# Altium footprint library whong.PcbLib: 68 footprints (part 3 of 5)
Each footprint in its own frame and in the unit in brackets; x right, y up, seen from the top. Pads: shape width x height; smd on the part's side, far side on the other; paste and mask are expansions set on the pad; w line width, h text height; cw(c..) or ccw(c..) is an arc to the next point about the centre after c.
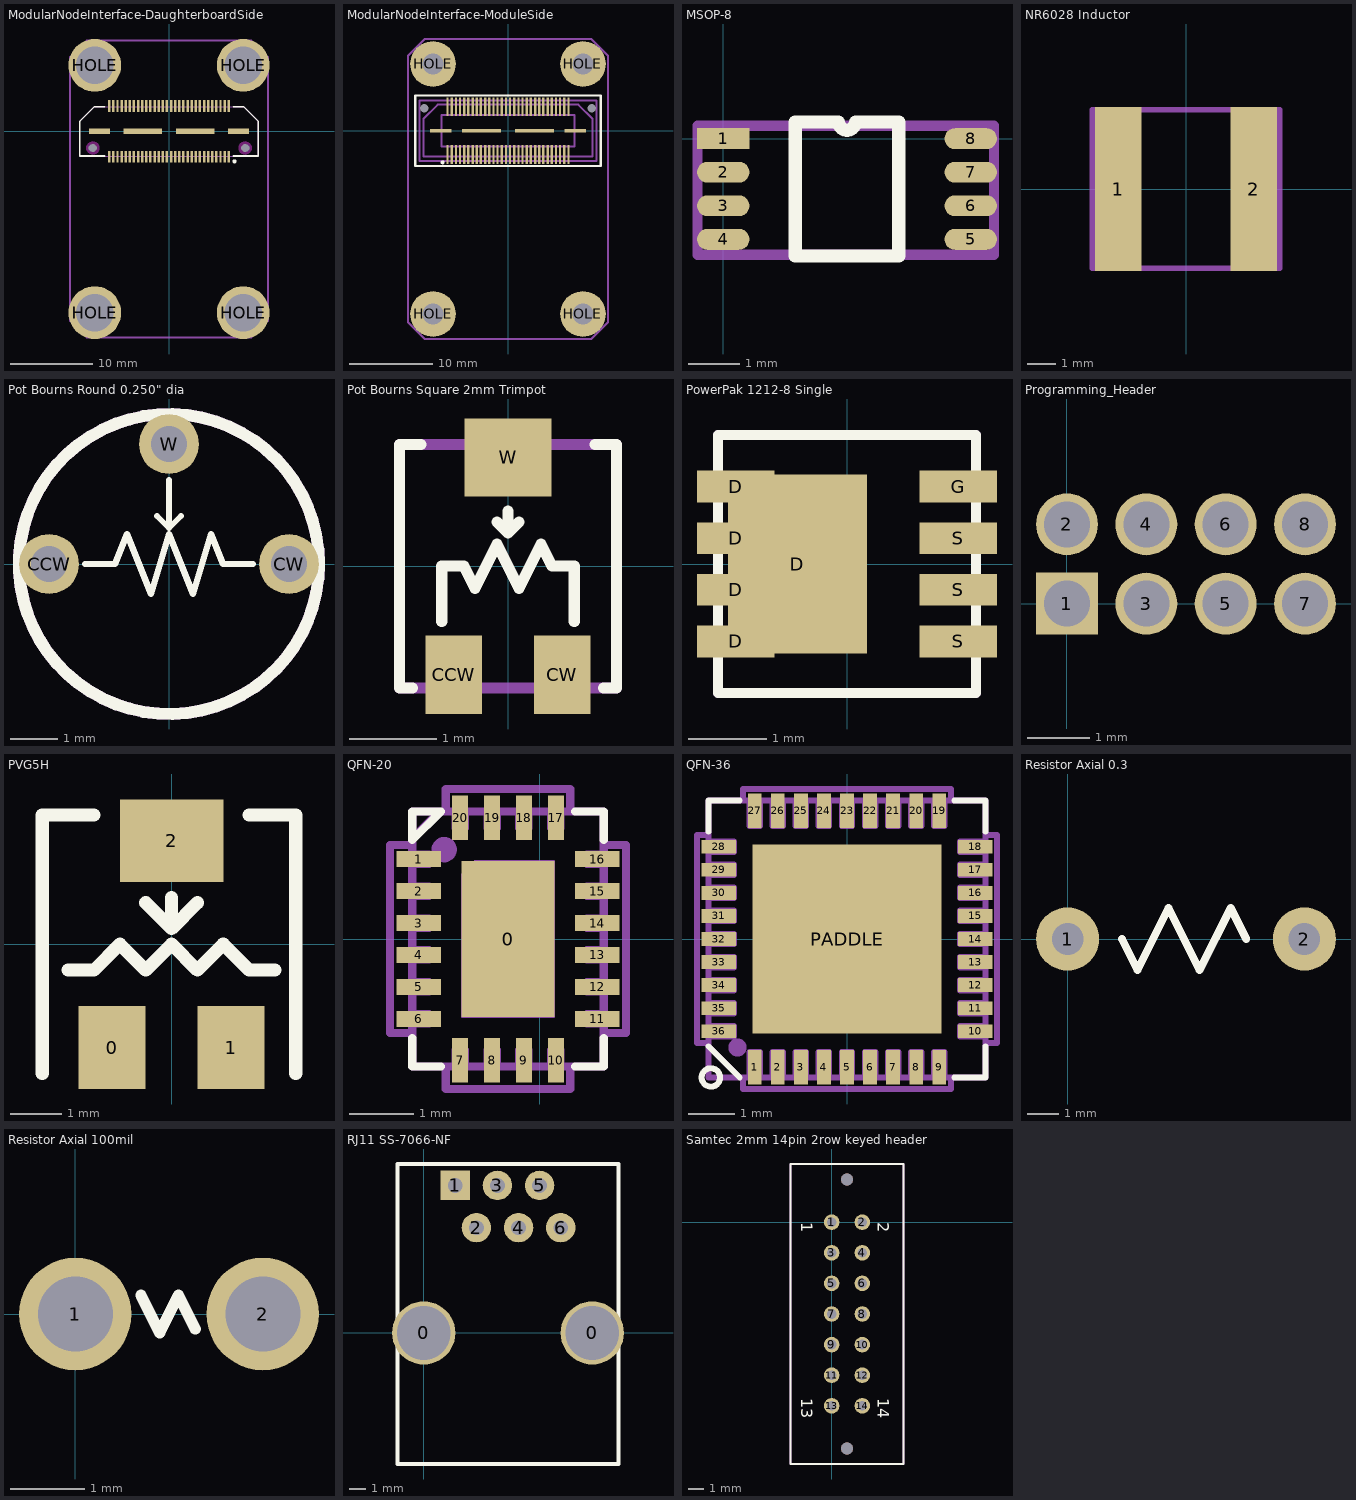
[diagram p2: the footprints below, top view; thin cyan lines are the x and y axes]

## ModularNodeInterface-DaughterboardSide [mm] "QTH Board to board connector"
pads (70):
  rect 0.3x1.45 smd mask+0: 1(7.25,-3.09) 2(7.25,3.09) 3(6.75,-3.09) 4(6.75,3.09) 5(6.25,-3.09) 6(6.25,3.09) 7(5.75,-3.09) 8(5.75,3.09) 9(5.25,-3.09) 10(5.25,3.09) 11(4.75,-3.09) 12(4.75,3.09) 13(4.25,-3.09) 14(4.25,3.09) 15(3.75,-3.09) 16(3.75,3.09) 17(3.25,-3.09) 18(3.25,3.09) 19(2.75,-3.09) 20(2.75,3.09) 21(2.25,-3.09) 22(2.25,3.09) 23(1.75,-3.09) 24(1.75,3.09) 25(1.25,-3.09) 26(1.25,3.09) 27(0.75,-3.09) 28(0.75,3.09) 29(0.25,-3.09) 30(0.25,3.09) 31(-0.25,-3.09) 32(-0.25,3.09) 33(-0.75,-3.09) 34(-0.75,3.09) 35(-1.25,-3.09) 36(-1.25,3.09) 37(-1.75,-3.09) 38(-1.75,3.09) 39(-2.25,-3.09) 40(-2.25,3.09) 41(-2.75,-3.09) 42(-2.75,3.09) 43(-3.25,-3.09) 44(-3.25,3.09) 45(-3.75,-3.09) 46(-3.75,3.09) 47(-4.25,-3.09) 48(-4.25,3.09) 49(-4.75,-3.09) 50(-4.75,3.09) 51(-5.25,-3.09) 52(-5.25,3.09) 53(-5.75,-3.09) 54(-5.75,3.09) 55(-6.25,-3.09) 56(-6.25,3.09) 57(-6.75,-3.09) 58(-6.75,3.09) 59(-7.25,-3.09) 60(-7.25,3.09)
  rect 2.54x0.635 smd mask+0: 61(8.455,0) 62(-8.455,0)
  rect 4.7x0.635 smd mask+0: 63(3.175,0) 64(-3.175,0)
  round 0.5 hole 1 unplated mask+0: 65(9.24,-2.03) 66(-9.24,-2.03)
  round 6.4 hole 4.572: HOLE(-9,-22) HOLE(-9,8) HOLE(9,-22) HOLE(9,8)
Top Overlay:
  circle w0.25: c7.95,-3.65 r0.125
  lines w0.2: -7.8,-3 -10.85,-3 -10.85,1.2 -9.05,3 -7.8,3 ; 7.8,-3 10.85,-3 10.85,1.2 9.05,3 7.8,3
Keep-Out Layer:
  pour cut-out: -10.047,-2.03 -10.019,-2.239 -9.939,-2.433 -9.811,-2.601 -9.643,-2.729 -9.449,-2.809 -9.24,-2.837 -9.031,-2.809 -8.837,-2.729 -8.669,-2.601 -8.541,-2.433 -8.461,-2.239 -8.433,-2.03 -8.461,-1.821 -8.541,-1.627 -8.669,-1.459 -8.837,-1.331 -9.031,-1.251 -9.24,-1.223 -9.449,-1.251 -9.643,-1.331 -9.811,-1.459 -9.939,-1.627 -10.019,-1.821
  pour cut-out: 8.433,-2.03 8.461,-2.239 8.541,-2.433 8.669,-2.601 8.837,-2.729 9.031,-2.809 9.24,-2.837 9.449,-2.809 9.643,-2.729 9.811,-2.601 9.939,-2.433 10.019,-2.239 10.047,-2.03 10.019,-1.821 9.939,-1.627 9.811,-1.459 9.643,-1.331 9.449,-1.251 9.24,-1.223 9.031,-1.251 8.837,-1.331 8.669,-1.459 8.541,-1.627 8.461,-1.821
Mechanical 6:
  lines w0.1: -10.85,-3 10.85,-3 10.85,1.2 9.05,3 -9.05,3 -10.85,1.2
  lines w0.254: -12,-23 -12,9 -10,11 10,11 12,9 12,-23 10,-25 -10,-25 -12,-23
  text ".Designator" at -3,-15 h0.76
3D body: height 8.42, standoff 1.58, extent -12,-25 12,11
3D body: height 9.8, standoff 6.8, extent -11.728,-24.744 -6.25,-19.255
3D body: height 9.8, standoff 6.8, extent 6.272,-24.744 11.75,-19.255
3D body: height 9.8, standoff 6.8, extent 6.272,5.256 11.75,10.745
3D body: height 9.8, standoff 6.8, extent -11.728,5.256 -6.25,10.745
3D body: height 5, standoff 0, extent -12.274,-25.293 -5.7,-18.706
3D body: height 5, standoff 0, extent 5.726,-25.293 12.3,-18.706
3D body: height 5, standoff 0, extent 5.726,4.707 12.3,11.294
3D body: height 5, standoff 0, extent -12.274,4.707 -5.7,11.294
3D body: height 4.06, standoff -0.94, extent -10.001,-3.556 10.001,3.556

## ModularNodeInterface-ModuleSide [mm] "QSH Board to board connector"
pads (70):
  rect 0.28x2.27 smd mask+0.05: 1(-7.25,-2.87) 2(-7.25,2.87) 3(-6.75,-2.87) 4(-6.75,2.87) 5(-6.25,-2.87) 6(-6.25,2.87) 7(-5.75,-2.87) 8(-5.75,2.87) 9(-5.25,-2.87) 10(-5.25,2.87) 11(-4.75,-2.87) 12(-4.75,2.87) 13(-4.25,-2.87) 14(-4.25,2.87) 15(-3.75,-2.87) 16(-3.75,2.87) 17(-3.25,-2.87) 18(-3.25,2.87) 19(-2.75,-2.87) 20(-2.75,2.87) 21(-2.25,-2.87) 22(-2.25,2.87) 23(-1.75,-2.87) 24(-1.75,2.87) 25(-1.25,-2.87) 26(-1.25,2.87) 27(-0.75,-2.87) 28(-0.75,2.87) 29(-0.25,-2.87) 30(-0.25,2.87) 31(0.25,-2.87) 32(0.25,2.87) 33(0.75,-2.87) 34(0.75,2.87) 35(1.25,-2.87) 36(1.25,2.87) 37(1.75,-2.87) 38(1.75,2.87) 39(2.25,-2.87) 40(2.25,2.87) 41(2.75,-2.87) 42(2.75,2.87) 43(3.25,-2.87) 44(3.25,2.87) 45(3.75,-2.87) 46(3.75,2.87) 47(4.25,-2.87) 48(4.25,2.87) 49(4.75,-2.87) 50(4.75,2.87) 51(5.25,-2.87) 52(5.25,2.87) 53(5.75,-2.87) 54(5.75,2.87) 55(6.25,-2.87) 56(6.25,2.87) 57(6.75,-2.87) 58(6.75,2.87) 59(7.25,-2.87) 60(7.25,2.87)
  rect 2.54x0.43 smd mask+0.05: 61(-8.065,0) 64(8.065,0)
  rect 4.7x0.43 smd mask+0.05: 62(-3.175,0) 63(3.175,0)
  round 0 hole 1.02: 65(-10.065,2.67) 66(10.065,2.67)
  round 5.5 hole 2.5: HOLE(-9,-22) HOLE(-9,8) HOLE(9,-22) HOLE(9,8)
Top Overlay:
  circle w0.254: c-7.856,-3.8 r0.106
  lines w0.254: -11.133,-4.23 11.133,-4.23 11.133,4.23 -11.133,4.23 -11.133,-4.23
Mechanical 6:
  lines w0.254: -12,-23 -10,-25 10,-25 12,-23 12,9 10,11 -10,11 -12,9 -12,-23 ; -10.636,-3.62 -10.636,3.62 10.636,3.62 10.636,-3.62 -10.636,-3.62 ; -10.136,-3.12 -10.136,1.42 -8.436,3.12 8.436,3.12 10.136,1.42 10.136,-3.12 -10.136,-3.12 ; -8,-1.9 -8,1.9 8,1.9 8,-1.9 -8,-1.9
  text ".Designator" at -3,-15 h0.76
3D body: height 3.42, standoff -0.58, extent -10.647,-3.768 10.625,3.725

## MSOP-8 [mil]
pads (8):
  rect 40x16 smd: 1(0,0)
  oval 40x16 smd: 2(0,-25.6) 3(0,-51.2) 4(0,-76.8) 5(189,-76.8) 6(189,-51.2) 7(189,-25.6) 8(189,0)
Top Overlay:
  lines w10: 55,-89.6 55,12.8 88.1,12.8 ccw(c94.5,12.8) 100.9,12.8 134,12.8 134,-89.6 55,-89.6
Mechanical 6:
  lines w7.87: -19.68,-88.58 -19.68,9.84 206.69,9.84 206.69,-88.58 -19.68,-88.58
  text ".designator" at 9.84,-68.9 h40

## NR6028 Inductor [mm]
pads (2):
  rect 1.6x5.7 smd: 1(-2.35,0) 2(2.35,0)
Mechanical 6:
  lines w0.2: -3.25,-2.75 -3.25,2.75 3.25,2.75 3.25,-2.75 -3.25,-2.75
  text ".designator" at -2.5,-1 h1.02

## PCBComponent_1 [mm]

## Pot Bourns Round 0.250" dia [mil] "Bourns Sealed Round 0.250\" dia pot"
height 230
pads (3):
  round 50 hole 30: CCW(-100,0) CW(100,0) W(0,100)
Top Overlay:
  circle w10: c0,0 r125
  lines w5: -70,0 -50,0 -45,0 -35,25 -15,-25 ; -10,40 0,30 ; 0,70 0,30 ; 10,40 0,30 ; 70,0 45,0 35,25 20,-25 0,25 ; -15,-25 0,25 ; -15,-25 0,25
Mechanical 1:
  circle w10: c0,0 r125
Mechanical 6:
  circle w5: c0,0 r125
  text ".Designator" at -90,-10 h31.5
3D body: height 230, standoff 0, extent -124.01,-125 125,124.51
3D body: height 0, standoff -180, extent 90.08,-9.96 110,10
3D body: height 0, standoff -180, extent -9.92,90.04 10,110
3D body: height 0, standoff -180, extent -109.92,-9.96 -90,10

## Pot Bourns Square 2mm Trimpot [mm] "Bourns Sealed 2mm square trimpot"
height 1.7
pads (3):
  rect 0.65x0.9 smd: CCW(-0.625,-1.25) CW(0.625,-1.25)
  rect 1x0.9 smd: W(0,1.25)
Top Overlay:
  lines w0.127: -1.1,-1.4 -1.25,-1.4 -1.25,1.4 -1,1.4 ; -0.762,-0.635 -0.762,0 -0.508,0 -0.381,-0.254 -0.127,0.254 0.127,-0.254 0.381,0.254 0.508,0 0.762,0 0.762,-0.635 ; -0.127,0.508 0,0.381 ; 0,0.635 0,0.381 ; 0.127,0.508 0,0.381 ; 1,1.4 1.25,1.4 1.25,-1.4 1.1,-1.4
Mechanical 6:
  lines w0.127: -1.25,-1.4 1.25,-1.4 1.25,1.4 1,1.4 -1.25,1.4 -1.25,-1.4
  text ".Designator" at -1.168,-0.381 h0.8
3D body: height 1.8, standoff 1, extent -0.747,-0.749 0.747,0.749
3D body: height 1.7, standoff 0.2, extent -1.25,-1.4 1.25,1.4

## PowerPak 1212-8 Single [mil] "PowerPak 1212-8 Single"
height 41.34
pads (9):
  rect 39x16 smd: D(-56,-39) D(-56,-13) D(-56,13) D(-56,39) G(56,39) S(56,-39) S(56,-13) S(56,13)
  rect 70x90 smd: D(-25,0)
Top Overlay:
  lines w5: -64.96,-64.96 -64.96,64.96 64.96,64.96 64.96,-64.96 -64.96,-64.96
Mechanical 6:
  lines w5: -64.96,-64.96 64.96,-64.96 64.96,64.96 -64.96,64.96 -64.96,-64.96
  text ".designator" at -45.28,-12.8 h27.56
3D body: height 41.34, standoff 0, extent -64.96,-64.96 64.96,64.96

## Programming_Header [mil]
pads (8):
  rect 39x39 hole 29: 1(0,0)
  round 39 hole 29: 2(0,50) 3(50,0) 4(50,50) 5(100,0) 6(100,50) 7(150,0) 8(150,50)

## PVG5H [mm] "Murata side-turn trim pot"
height 3.7
pads (3):
  rect 1.3x1.6 smd: 0(-1.15,-2) 1(1.15,-2)
  rect 2x1.6 smd: 2(0,2)
Top Overlay:
  lines w0.254: -2.5,-2.5 -2.5,2.5 -1.5,2.5 ; -2,-0.5 -1.5,-0.5 -1,0 -0.5,-0.5 ; 0,0.9 0,0.3 ; 0.5,0.8 0,0.3 ; 1.5,2.5 2.4,2.5 2.4,-2.5 ; 2,-0.5 1.5,-0.5 1,0 0.5,-0.5 ; -0.5,-0.5 -0.5,-0.5 ; -0.5,-0.5 0,0 0.5,-0.5 ; -0.5,0.8 -0.5,0.8 ; -0.5,0.8 0,0.3 ; 0,0.3 0,0.3 ; 0.5,-0.5 0.5,-0.5
3D body: height 3.7, standoff 0.1, extent -2.4,-2.5 2.4,2.5

## QFN-20 [mm] "Quad Flat pack No leads, 24 pads + slug, 0.5mm pitch"
height 0.75
pads (21):
  rect 1.45x2.45 smd: 0(-0.5,0)
  rect 0.7x0.25 smd: 1(-1.9,1.25) 2(-1.9,0.75) 3(-1.9,0.25) 4(-1.9,-0.25) 5(-1.9,-0.75) 6(-1.9,-1.25) 11(0.9,-1.25) 12(0.9,-0.75) 13(0.9,-0.25) 14(0.9,0.25) 15(0.9,0.75) 16(0.9,1.25)
  rect 0.25x0.7 smd: 7(-1.25,-1.9) 8(-0.75,-1.9) 9(-0.25,-1.9) 10(0.25,-1.9) 17(0.25,1.9) 18(-0.25,1.9) 19(-0.75,1.9) 20(-1.25,1.9)
Top Overlay:
  lines w0.127: -2,-1.55 -2,-2 -1.55,-2 ; 0.55,-2 1,-2 1,-1.55 ; 0.55,2 1,2 1,1.55 ; -2,1.55 -2,2 -1.55,2 -2,1.55
Mechanical 1:
  lines w0.02: -2,-1.375 -1.725,-1.375 -1.6,-1.25 -1.725,-1.125 -2,-1.125 ; -2,-0.875 -1.725,-0.875 -1.6,-0.75 -1.725,-0.625 -2,-0.625 ; -2,-0.375 -1.725,-0.375 -1.6,-0.25 -1.725,-0.125 -2,-0.125 ; -2,0.125 -1.725,0.125 -1.6,0.25 -1.725,0.375 -2,0.375 ; -2,0.625 -1.725,0.625 -1.6,0.75 -1.725,0.875 -2,0.875 ; -2,1.125 -1.725,1.125 -1.6,1.25 -1.725,1.375 -2,1.375 ; -1.375,-2 -1.375,-1.725 -1.25,-1.6 -1.125,-1.725 -1.125,-2 ; -1.375,2 -1.375,1.725 -1.25,1.6 -1.125,1.725 -1.125,2 ; -1.225,1.025 -1.225,-1.225 0.225,-1.225 0.225,1.225 -1.025,1.225 ; -0.875,-2 -0.875,-1.725 -0.75,-1.6 -0.625,-1.725 -0.625,-2 ; -0.875,2 -0.875,1.725 -0.75,1.6 -0.625,1.725 -0.625,2 ; -0.375,-2 -0.375,-1.725 -0.25,-1.6 -0.125,-1.725 -0.125,-2 ; -0.375,2 -0.375,1.725 -0.25,1.6 -0.125,1.725 -0.125,2 ; 0.125,-2 0.125,-1.725 0.25,-1.6 0.375,-1.725 0.375,-2 ; 0.125,2 0.125,1.725 0.25,1.6 0.375,1.725 0.375,2 ; 1,-1.375 0.725,-1.375 0.6,-1.25 0.725,-1.125 1,-1.125 ; 1,-0.875 0.725,-0.875 0.6,-0.75 0.725,-0.625 1,-0.625 ; 1,-0.375 0.725,-0.375 0.6,-0.25 0.725,-0.125 1,-0.125 ; 1,0.125 0.725,0.125 0.6,0.25 0.725,0.375 1,0.375 ; 1,0.625 0.725,0.625 0.6,0.75 0.725,0.875 1,0.875 ; 1,1.125 0.725,1.125 0.6,1.25 0.725,1.375 1,1.375 ; -2,-2 1,-2 ; -2,-2 -2,2 ; -2,-2 -2,2 ; -2,2 1,2 ; -2,2 1,2 ; 1,-2 1,2 ; 1,-2 1,2
Mechanical 6:
  circle w0.254: c-1.5,1.4 r0.071
  lines w0.127: -2,-1.475 -2.35,-1.475 -2.35,1.475 -2,1.475 ; -2,1.55 -2,2 1,2 1,-2 -2,-2 -2,1.575 -1.575,2 ; -1.475,-2 -1.475,-2.35 0.475,-2.35 0.475,-2 ; -1.475,2 -1.475,2.35 0.475,2.35 0.475,2 ; 1,-1.475 1.35,-1.475 1.35,1.475 1,1.475
  text ".designator" at -1.5,0 h0.7
3D body: height 0.2, standoff 0, extent -1.229,-1.225 0.225,1.229
3D body: height 0.75, standoff 0.2, extent -2,-2 1,2

## QFN-36 [mm] "Quad Flat Pack No Leads 36"
height 1
pads (37):
  rect 0.3x0.75 smd: 1(-2,-2.775) 2(-1.5,-2.775) 3(-1,-2.775) 4(-0.5,-2.775) 5(0,-2.775) 6(0.5,-2.775) 7(1,-2.775) 8(1.5,-2.775) 9(2,-2.775) 19(2,2.775) 20(1.5,2.775) 21(1,2.775) 22(0.5,2.775) 23(0,2.775) 24(-0.5,2.775) 25(-1,2.775) 26(-1.5,2.775) 27(-2,2.775)
  rect 0.75x0.3 smd: 10(2.775,-2) 11(2.775,-1.5) 12(2.775,-1) 13(2.775,-0.5) 14(2.775,0) 15(2.775,0.5) 16(2.775,1) 17(2.775,1.5) 18(2.775,2) 28(-2.775,2) 29(-2.775,1.5) 30(-2.775,1) 31(-2.775,0.5) 32(-2.775,0) 33(-2.775,-0.5) 34(-2.775,-1) 35(-2.775,-1.5) 36(-2.775,-2)
  rect 4.1x4.1 smd: PADDLE(0,0)
Top Overlay:
  circle w0.127: c-2.95,-3 r0.2
  lines w0.127: -3,-2.325 -2.325,-3 ; -3,2.325 -3,3 -2.325,3 ; 2.325,-3 3,-3 3,-2.325 ; 2.325,3 3,3 3,2.325
Mechanical 1:
  lines w0.127: -3,-2.115 -2.45,-2.115 -2.45,-1.885 -3,-1.885 ; -3,-1.615 -2.45,-1.615 -2.45,-1.385 -3,-1.385 ; -3,-1.115 -2.45,-1.115 -2.45,-0.885 -3,-0.885 ; -3,-0.615 -2.45,-0.615 -2.45,-0.385 -3,-0.385 ; -3,-0.115 -2.45,-0.115 -2.45,0.115 -3,0.115 ; -3,0.385 -2.45,0.385 -2.45,0.615 -3,0.615 ; -3,0.885 -2.45,0.885 -2.45,1.115 -3,1.115 ; -3,1.385 -2.45,1.385 -2.45,1.615 -3,1.615 ; -3,1.885 -2.45,1.885 -2.45,2.115 -3,2.115 ; -2.115,-3 -2.115,-2.45 -1.885,-2.45 -1.885,-3 ; -2.115,3 -2.115,2.45 -1.885,2.45 -1.885,3 ; -1.615,-3 -1.615,-2.45 -1.385,-2.45 -1.385,-3 ; -1.615,3 -1.615,2.45 -1.385,2.45 -1.385,3 ; -1.115,-3 -1.115,-2.45 -0.885,-2.45 -0.885,-3 ; -1.115,3 -1.115,2.45 -0.885,2.45 -0.885,3 ; -0.615,-3 -0.615,-2.45 -0.385,-2.45 -0.385,-3 ; -0.615,3 -0.615,2.45 -0.385,2.45 -0.385,3 ; -0.115,-3 -0.115,-2.45 0.115,-2.45 0.115,-3 ; -0.115,3 -0.115,2.45 0.115,2.45 0.115,3 ; 0.385,-3 0.385,-2.45 0.615,-2.45 0.615,-3 ; 0.385,3 0.385,2.45 0.615,2.45 0.615,3 ; 0.885,-3 0.885,-2.45 1.115,-2.45 1.115,-3 ; 0.885,3 0.885,2.45 1.115,2.45 1.115,3 ; 1.385,-3 1.385,-2.45 1.615,-2.45 1.615,-3 ; 1.385,3 1.385,2.45 1.615,2.45 1.615,3 ; 1.885,-3 1.885,-2.45 2.115,-2.45 2.115,-3 ; 1.885,3 1.885,2.45 2.115,2.45 2.115,3 ; 3,-2.115 2.45,-2.115 2.45,-1.885 3,-1.885 ; 3,-1.615 2.45,-1.615 2.45,-1.385 3,-1.385 ; 3,-1.115 2.45,-1.115 2.45,-0.885 3,-0.885 ; 3,-0.615 2.45,-0.615 2.45,-0.385 3,-0.385 ; 3,-0.115 2.45,-0.115 2.45,0.115 3,0.115 ; 3,0.385 2.45,0.385 2.45,0.615 3,0.615 ; 3,0.885 2.45,0.885 2.45,1.115 3,1.115 ; 3,1.385 2.45,1.385 2.45,1.615 3,1.615 ; 3,1.885 2.45,1.885 2.45,2.115 3,2.115 ; -3,-3 3,-3 3,3 -3,3 -3,-3 ; -1.85,-1.85 1.85,-1.85 1.85,1.85 -1.85,1.85 -1.85,-1.85
Mechanical 6:
  circle w0.254: c-2.375,-2.35 r0.071
  lines w0.127: -3,-2.325 -2.325,-3 ; -3,-2.25 -3.25,-2.25 -3.25,2.25 -3,2.25 ; -2.25,-3 -2.25,-3.25 2.25,-3.25 2.25,-3 ; -2.25,3 -2.25,3.25 2.25,3.25 2.25,3 ; 3,-2.25 3.25,-2.25 3.25,2.25 3,2.25 ; -3,-3 -3,3 3,3 3,-3 -3,-3
  text ".designator" at -1.175,-0.4 h0.7
3D body: height 0.9, standoff 0.25, extent -3,-3 3,3
3D body: height 0.25, standoff 0, extent -0.115,-3 0.115,-2.45
3D body: height 0.25, standoff 0, extent -0.615,-3 -0.385,-2.45
3D body: height 0.25, standoff 0, extent -1.115,-3 -0.885,-2.45
3D body: height 0.25, standoff 0, extent -1.615,-3 -1.385,-2.45
3D body: height 0.25, standoff 0, extent -2.115,-3 -1.885,-2.45
3D body: height 0.25, standoff 0, extent 0.385,-3 0.615,-2.45
3D body: height 0.25, standoff 0, extent 0.885,-3 1.115,-2.45
3D body: height 0.25, standoff 0, extent 1.385,-3 1.615,-2.45
3D body: height 0.25, standoff 0, extent 1.885,-3 2.115,-2.45
3D body: height 0.25, standoff 0, extent 2.45,1.885 3,2.115
3D body: height 0.25, standoff 0, extent 2.45,1.385 3,1.615
3D body: height 0.25, standoff 0, extent 2.45,0.885 3,1.115
3D body: height 0.25, standoff 0, extent 2.45,0.385 3,0.615
3D body: height 0.25, standoff 0, extent 2.45,-2.115 3,-1.885
3D body: height 0.25, standoff 0, extent 2.45,-1.615 3,-1.385
3D body: height 0.25, standoff 0, extent 2.45,-1.115 3,-0.885
3D body: height 0.25, standoff 0, extent 2.45,-0.615 3,-0.385
3D body: height 0.25, standoff 0, extent 2.45,-0.115 3,0.115
3D body: height 0.25, standoff 0, extent -2.115,2.45 -1.885,3
3D body: height 0.25, standoff 0, extent -1.615,2.45 -1.385,3
3D body: height 0.25, standoff 0, extent -1.115,2.45 -0.885,3
3D body: height 0.25, standoff 0, extent -0.615,2.45 -0.385,3
3D body: height 0.25, standoff 0, extent 1.885,2.45 2.115,3
3D body: height 0.25, standoff 0, extent 1.385,2.45 1.615,3
3D body: height 0.25, standoff 0, extent 0.885,2.45 1.115,3
3D body: height 0.25, standoff 0, extent 0.385,2.45 0.615,3
3D body: height 0.25, standoff 0, extent -0.115,2.45 0.115,3
3D body: height 0.25, standoff 0, extent -3,-2.115 -2.45,-1.885
3D body: height 0.25, standoff 0, extent -3,-1.615 -2.45,-1.385
3D body: height 0.25, standoff 0, extent -3,-1.115 -2.45,-0.885
3D body: height 0.25, standoff 0, extent -3,-0.615 -2.45,-0.385
3D body: height 0.25, standoff 0, extent -3,1.885 -2.45,2.115
3D body: height 0.25, standoff 0, extent -3,1.385 -2.45,1.615
3D body: height 0.25, standoff 0, extent -3,0.885 -2.45,1.115
3D body: height 0.25, standoff 0, extent -3,0.385 -2.45,0.615
3D body: height 0.25, standoff 0, extent -3,-0.115 -2.45,0.115
3D body: height 0.25, standoff 0, extent -1.85,-1.85 1.85,1.85
3D body: height 0.25, standoff 0, extent -3,-3 3,-1.85
3D body: height 0.25, standoff 0, extent 1.85,-3 3,3
3D body: height 0.25, standoff 0, extent -3,1.85 3,3
3D body: height 0.25, standoff 0, extent -3,-3 -1.85,3

## Resistor Axial 0.3 [mil]
pads (2):
  round 80 hole 40: 1(0,0) 2(300,0)
Top Overlay:
  lines w10: 68.9,0 88.58,-39.37 127.95,39.37 167.32,-39.37 206.69,39.37 226.38,0

## Resistor Axial 100mil [mil]
pads (2):
  round 60 hole 40: 1(0,0) 2(100,0)
Top Overlay:
  lines w6: 35,10 45,-10 55,10 64,-8

## RJ11 SS-7066-NF [mil] "SS-7066-NF RJ11 Connector"
pads (8):
  round 150 hole 128: 0(0,0) 0(400,0)
  rect 70x70 hole 35: 1(75,350)
  round 70 hole 35: 2(125,250) 3(175,350) 4(225,250) 5(275,350) 6(325,250)
Top Overlay:
  lines w10: -62.5,-311 462.5,-311 462.5,401 -62.5,401 -62.5,-311

## Samtec 2mm 14pin 2row keyed header [mil] "Samtec 2mm 14pin 2row keyed header"
height 300
pads (14):
  round 40 hole 25: 1(0,0) 2(78.74,0) 3(0,-78.74) 4(78.74,-78.74) 5(0,-157.48) 6(78.74,-157.48) 7(0,-236.22) 8(78.74,-236.22) 9(0,-314.96) 10(78.74,-314.96) 11(0,-393.7) 12(78.74,-393.7) 13(0,-472.44) 14(78.74,-472.44)
via 39.37,-582.44 diameter 30 hole 30
via 39.37,110 diameter 30 hole 30
Top Overlay:
  lines w5: -105.63,-622.22 184.37,-622.22 184.37,149.78 -105.63,149.78 -105.63,-622.22
  text "13" at -78.74,-452.76 h30
  text "14" at 118.11,-452.76 h30
  text "2" at 118.11,0 h30
  text "1" at -78.74,0 h30
Mechanical 6:
  lines w5: -105.63,-622.22 -105.63,149.78 184.37,149.78 184.37,-622.22 -105.63,-622.22
  text ".Designator" at 19.68,78.74 h60
3D body: height 300, standoff -64.7, extent -105.63,-622.22 184.37,149.78